# Altium schematic symbol library PBL - Pads and Jumpers.SCHLIB: 14 symbols
Pins are listed as number, name and electrical type; pins without a type are passive.

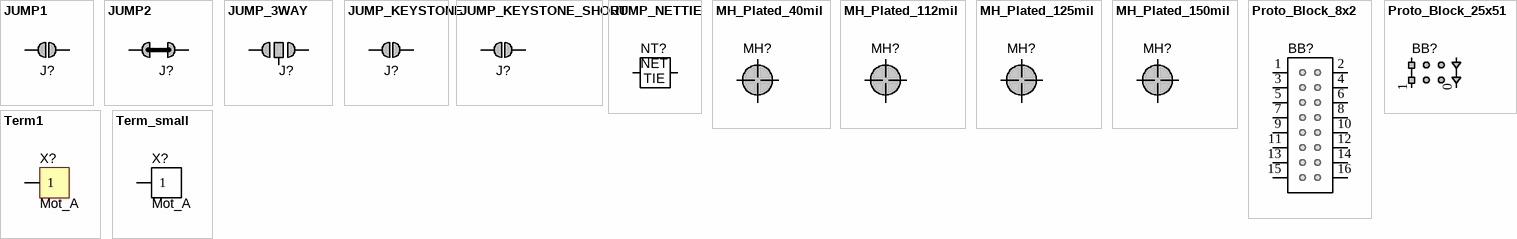
[diagram p0: symbols JUMP1 to Term_small]

## JUMP1
designator J?, comment Jumper  (value not drawn)  (no BOM)
SMD jumper
footprint JUMP1 (SMT Battery jumper pads)
pins: 1, 2

## JUMP2
designator J?, comment Jumper  (value not drawn)  (net tie, no BOM)
SMD jumper
footprint JUMP2 (SMT Battery jumper pads)
pins: 1, 2

## JUMP_3WAY
designator J?, comment Jumper  (value not drawn)  (no BOM)
SMD jumper
footprint Jump_3Way (SMT Battery jumper pads)
pins: 1, 2, 3

## JUMP_KEYSTONE
designator J?, comment 5104TR  (value not drawn)
2 (1 x 2) Position Shunt Connector Silver Non-Insulated 0.319" (8.10mm) Tin; Supplier 1: Digi-Key; Supplier Part Number 1: 36-5104CT-ND
footprint JUMP_KEYSTONE_MINITURE
pins: 1, 2

## JUMP_KEYSTONE_SHORT
designator J?, comment 5102TR  (value not drawn)
2 (1 x 2) Position Shunt Connector Silver Non-Insulated 0.114" (2.90mm) Tin; Supplier 1: Digi-Key; Supplier Part Number 1: 36-5102-ND
footprint JUMP_SMT_KEYSTONE_5102 (2 (1 x 2) Position Shunt Connector Silver Non-Insulated 0.114" (2.90mm) Tin)
pins: 1, 2

## JUMP_NETTIE
designator NT?, comment Net Tie  (value not drawn)  (net tie, no BOM)
footprint NetTie_Internal1_24mil
footprint NetTie_Internal2_24mil
footprint NetTie_External_24mil
pins: 1, 2
text: NET; TIE

## MH_Plated_40mil
designator MH?  (value not drawn)  (no BOM)
footprint MH_PLATED_40mil ID x 100mil OD (Plated Mounting hole, general purpose)
pins: MH

## MH_Plated_112mil
designator MH?  (value not drawn)  (no BOM)
footprint MH_PLATED_112 ID x 260mil OD (Plated Mounting hole, accepts 4-xx machine screw)
pins: MH

## MH_Plated_125mil
designator MH?  (value not drawn)  (no BOM)
Rule: UNIONINDEX{}0[]SOLDERMASKEXPANSIONMODE{}None[]PASTEMASKEXPANSIONMODE{}None[]RULEKIND{}PlaneConnect[]NETSCOPE{}AnyNet[]LAYERKIND{}SameLayer[]NAME{}Schematic Power Plane Connect Style[]PLANECONNECTSTYLE{}Direct[]RELIEFEXPANSION{}15mil[]RELIEFENTRIES{}2[]RELIEFCONDUCTORWIDTH{}12mil[]RELIEFAIRGAP{}10mil[]UNIT{}Imperial[]PcbType{}ProtelPcb
footprint MH_PLATED_125 ID x 260mil OD (Plated Mounting Hole)
pins: MH

## MH_Plated_150mil
designator MH?  (value not drawn)  (no BOM)
footprint MH_PLATED_150ID x 220mil OD (Plated Mounting Hole, Accepts 4-xx machine screw)
pins: MH

## Proto_Block_8x2
designator BB?  (value not drawn)  (no BOM)
DAQ breakout section
footprint Breakout_8x2 (Small DAQ breakout for hookup to breadboard section)
pins: 1 AI2, 2 AI3, 3 AI10, 4 AI11, 5 GND, 6 GND, 7 AO0, 8 AO1, 9 P0.7, 10 P1.7, 11 P2.0, 12 P2.1, 13 P2.2, 14 P2.3, 15 P2.4, 16 P2.5

## Proto_Block_25x51
designator BB?  (value not drawn)  (no BOM)
footprint BreadBoard_25x51 (Small 1"x2" breadboard section)
pins: 0, 1

## Term1
designator X?, comment Mot_A  (no BOM)
footprint THP_D38_T75_B125 (Thru-Hole Pad with 75mil top and 125mil bottom annular rings)
pins: 1

## Term_small
designator X?, comment Mot_A  (no BOM)
footprint THP_D38_T75_B75 (Thru-Hole Pad with 75mil top and 75mil bottom annular rings)
pins: 1